# EAGLE library part MS3-DB15 (library MS3-adapter-components)
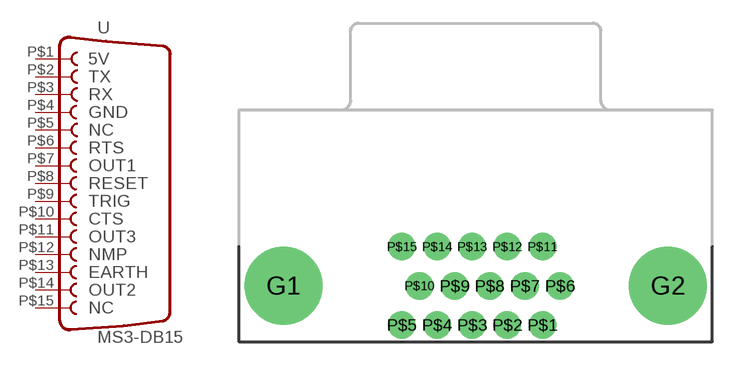
[diagram p1: symbol with the pads of DB15-MALE; footprint DB15-MALE]

Designator prefix -

## MS3-DB15 (VENDOR: Digikey; VENDOR_PN: A31927-ND)  [DB15-MALE]
P$1  1  pas
P$2  2  pas
P$3  3  pas
P$4  4  pas
P$5  5  pas
P$6  6  pas
P$7  7  pas
P$8  8  pas
P$9  9  pas
P$10  10  pas
P$11  11  pas
P$12  12  pas
P$13  13  pas
P$14  14  pas
P$15  15  pas

## Footprint DB15-MALE (pad centres in mm)
15 Pin High Density DB15 - Male PCB Mount Right Angle Modified from DB9nconnector in Sparkfun library.
drill 3.302 pad 5.08: G1 -12.5,0; G2 12.5,0
drill 1.194: P$1 4.343,-2.54; P$2 2.057,-2.54; P$3 -0.229,-2.54; P$4 -2.515,-2.54; P$5 -4.801,-2.54; P$6 5.486,0; P$7 3.2,0; P$8 0.914,0; P$9 -1.372,0; P$10 -3.658,0; P$11 4.343,2.54; P$12 2.057,2.54; P$13 -0.229,2.54; P$14 -2.515,2.54; P$15 -4.801,2.54